# EAGLE library part JCD0412S05 (library RescueRunner)
XP Power Through Hole 4W Isolated DC-DC Converter, Vin 9 18 V dc, I/O isolation 1.6kV dc, Vout 5V dc Source: Datasheet <https://componentsearchengine.com/Datasheets/1/JCD0412S05.pdf>
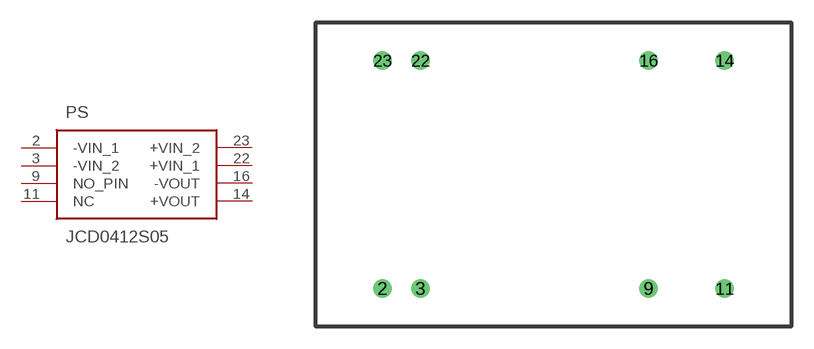
[diagram p14: symbol with the pads of JCD; footprint JCD]

Designator prefix PS

## JCD0412S05 (DESCRIPTION: XP Power Through Hole 4W Isolated DC-DC Converter, Vin 9 18 V dc, I/O isolation 1.6kV dc, Vout 5V dc; HEIGHT: mm; MANUFACTURER_NAME: XP POWER; MANUFACTURER_PART_NUMBER: JCD0412S05; MOUSER_PART_NUMBER: 209-JCD0412S05; MOUSER_PRICE-STOCK: https://www.mouser.com/Search/Refine.aspx?Keyword=209-JCD0412S05)  [JCD]
2  -VIN_1
3  -VIN_2
9  NO_PIN
11  NC  nc
14  +VOUT
16  -VOUT
22  +VIN_1
23  +VIN_2

## Footprint JCD (pad centres in mm)
JCD
drill 0.75 pad 1.2: 2 -11.43,-7.62; 3 -8.89,-7.62; 9 6.35,-7.62; 11 11.43,-7.62; 14 11.43,7.62; 16 6.35,7.62; 22 -8.89,7.62; 23 -11.43,7.62